# Altium footprint library yangliwei.PcbLib: 37 footprints (part 3 of 3)
Each footprint in its own frame and in the unit in brackets; x right, y up, seen from the top. Pads: shape width x height; smd on the part's side, far side on the other; paste and mask are expansions set on the pad; w line width, h text height; cw(c..) or ccw(c..) is an arc to the next point about the centre after c.
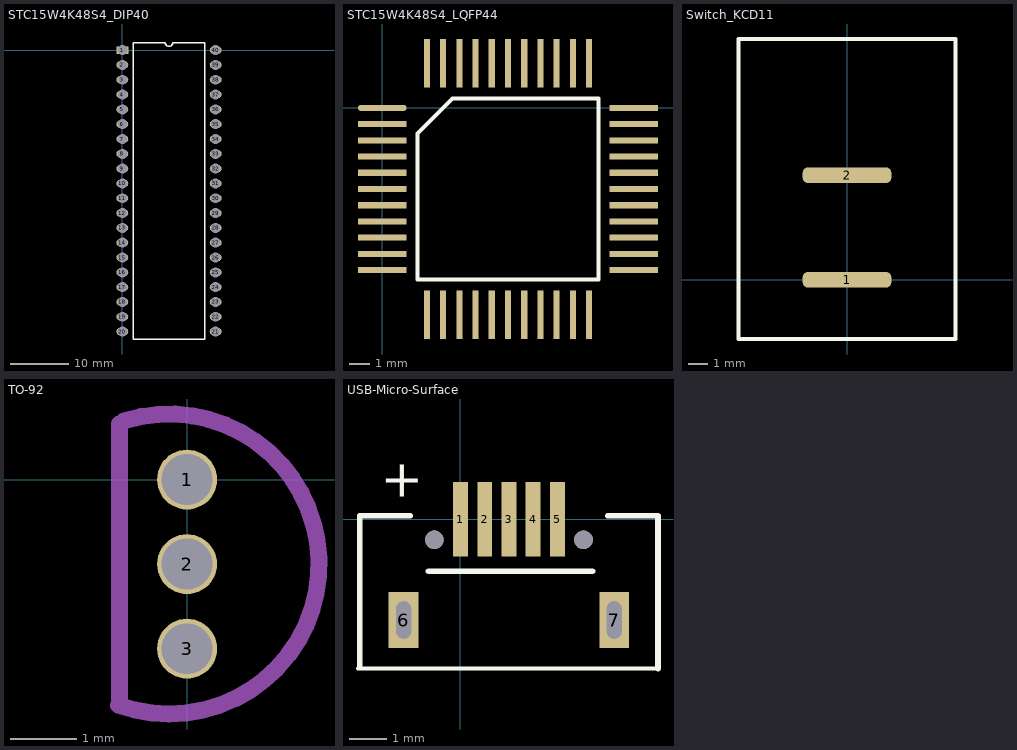
[diagram p2: the footprints below, top view; thin cyan lines are the x and y axes]

## STC15W4K48S4_DIP40 [mil]
pads (40):
  rect 80x50 hole 67: 1(0,0)
  oval 80x50 hole 67: 2(0,-100) 3(0,-200) 4(0,-300) 5(0,-400) 6(0,-500) 7(0,-600) 8(0,-700) 9(0,-800) 10(0,-900) 11(0,-1000) 12(0,-1100) 13(0,-1200) 14(0,-1300) 15(0,-1400) 16(0,-1500) 17(0,-1600) 18(0,-1700) 19(0,-1800) 20(0,-1900) 21(630,-1900) 22(630,-1800) 23(630,-1700) 24(630,-1600) 25(630,-1500) 26(630,-1400) 27(630,-1300) 28(630,-1200) 29(630,-1100) 30(630,-1000) 31(630,-900) 32(630,-800) 33(630,-700) 34(630,-600) 35(630,-500) 36(630,-400) 37(630,-300) 38(630,-200) 39(630,-100) 40(630,0)
Top Overlay:
  lines w10: 75,-1950 75,50 290,50 ccw(c315,50) 340,50 555,50 555,-1950 75,-1950

## STC15W4K48S4_LQFP44 [mm]
pads (44):
  oval 2.4x0.3 smd: 1(0,0)
  rect 2.4x0.3 smd: 2(0,-0.8) 3(0,-1.6) 4(0,-2.4) 5(0,-3.2) 6(0,-4) 7(0,-4.8) 8(0,-5.6) 9(0,-6.4) 10(0,-7.2) 11(0,-8) 23(12.4,-8) 24(12.4,-7.2) 25(12.4,-6.4) 26(12.4,-5.6) 27(12.4,-4.8) 28(12.4,-4) 29(12.4,-3.2) 30(12.4,-2.4) 31(12.4,-1.6) 32(12.4,-0.8) 33(12.4,0)
  rect 0.3x2.4 smd: 12(2.2,-10.2) 13(3,-10.2) 14(3.8,-10.2) 15(4.6,-10.2) 16(5.4,-10.2) 17(6.2,-10.2) 18(7,-10.2) 19(7.8,-10.2) 20(8.6,-10.2) 21(9.4,-10.2) 22(10.2,-10.2) 34(10.2,2.2) 35(9.4,2.2) 36(8.6,2.2) 37(7.8,2.2) 38(7,2.2) 39(6.2,2.2) 40(5.4,2.2) 41(4.6,2.2) 42(3.8,2.2) 43(3,2.2) 44(2.2,2.2)
Top Overlay:
  lines w0.2: 1.735,-8.465 10.665,-8.465 10.665,0.465 3.47,0.465 1.735,-1.27 1.735,-8.465

## Switch_KCD11 [mm] "3A 25V"
height 10
pads (2):
  rrect70% 4.5x0.8 all layers, no hole: 1(0,0) 2(0,5.3)
Top Overlay:
  lines w0.2: -5.5,-3 -5.5,12.2 5.5,12.2 5.5,-3 -5.5,-3

## TO-92 [mm]
height 3
pads (3):
  round 0.9 hole 0.762: 1(0,0) 2(0,-1.27) 3(0,-2.54)
Mechanical 1:
  lines w0.254: -1.031,-3.389 ccw(c-0.271,-1.268) -0.945,0.881 ; -1.016,-3.348 -1.016,0.838
  text "1" at -1.829,-0.102 h0.5

## USB-Micro-Surface [mm] "USB Micro with surface package"
pads (9):
  rect 0.4x2 smd: 1(0,0) 2(0.65,0) 3(1.3,0) 4(1.95,0) 5(2.6,0)
  rect 0.8x1.5 hole 0.4 slot 1 at 90 deg: 6(-1.525,-2.7) 7(4.125,-2.7)
  round 0.5 hole 0.5 unplated: ""(-0.7,-0.55) ""(3.3,-0.55)
Top Overlay:
  lines w0.1: -2.75,-4 5.3,-4
  lines w0.152: -2.7,-3.95 -2.7,-1.615 -2.7,0.1 -1.35,0.1 ; -0.859,-1.391 3.541,-1.391 ; 3.95,0.1 5.3,0.1 5.3,-1.65 5.3,-4
  text "+" at -2.137,0.608 h1
Keep-Out Layer:
  lines w0.127: -1.754,-3.243 -1.296,-3.243 -1.296,-2.125 -1.754,-2.125 -1.754,-3.243 ; 3.896,-3.243 4.354,-3.243 4.354,-2.125 3.896,-2.125 3.896,-3.243
Mechanical 1:
  lines w0.127: -1.754,-3.243 -1.754,-2.125 -1.296,-2.125 -1.296,-3.243 -1.754,-3.243 ; 3.896,-3.243 3.896,-2.125 4.354,-2.125 4.354,-3.243 3.896,-3.243
3D body "User Library-10104111.STEP": height 1.39, standoff -1.68, extent -3.079,-2.9 5.721,2.726